# Altium footprint library Expander.PcbLib: 6 footprints
Each footprint in its own frame and in the unit in brackets; x right, y up, seen from the top. Pads: shape width x height; smd on the part's side, far side on the other; paste and mask are expansions set on the pad; w line width, h text height; cw(c..) or ccw(c..) is an arc to the next point about the centre after c.
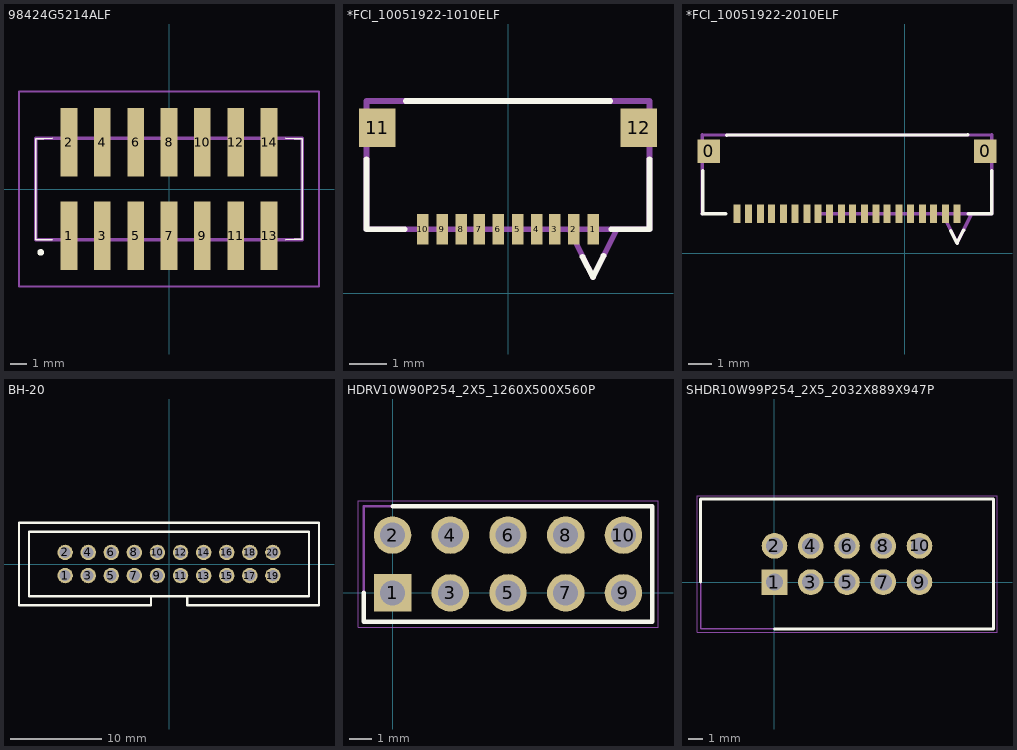
[diagram p0: the footprints below, top view; thin cyan lines are the x and y axes]

## 98424G5214ALF [mm]
pads (14):
  rect 1x4.1 smd: 1(-6,-2.8) 2(-6,2.8) 3(-4,-2.8) 4(-4,2.8) 5(-2,-2.8) 6(-2,2.8) 7(0,-2.8) 8(0,2.8) 9(2,-2.8) 10(2,2.8) 11(4,-2.8) 12(4,2.8) 13(6,-2.8) 14(6,2.8)
Top Overlay:
  lines w0.1: -7,-3.05 -8,-3.05 -8,3 -7,3.05 ; 7,-3.05 8,-3 8,3 7,3.05
  lines w0.2: -7.8,-3.8 ccw(c-7.7,-3.8) -7.6,-3.8 ccw(c-7.7,-3.8) -7.8,-3.8
Mechanical 13:
  lines w0.2: -8,-3.05 8,-3.05 8,3.05 -8,3.05 -8,-3.05
Mechanical 15:
  lines w0.1: -9,-5.85 9,-5.85 9,5.85 -9,5.85 -9,-5.85
3D body "98424-G52-14ALF.stp": height 7.1, standoff 0, extent -8,-4.75 8,4.75

## *FCI_10051922-1010ELF [mil]
pads (12):
  rect 12x32 smd: 1(89,67) 2(69,67) 3(49,67) 4(30,67) 5(10,67) 6(-10,67) 7(-30,67) 8(-49,67) 9(-69,67) 10(-89,67)
  rect 38x40 smd: 11(-137,173) 12(137,173)
Top Overlay:
  lines w6: -148,140 -148,67 -108,67 ; -107,201 107,201 ; 78,38 89,17 100,39 ; 108,67 148,67 148,140
Mechanical 4:
  lines w6: -148,67 148,67 ; -148,67 -148,201 ; -148,67 148,67 ; -148,67 -148,201 ; -148,201 148,201 ; -148,201 148,201 ; 89,17 114,67 89,17 ; 89,17 64,67 89,17 ; 148,67 148,201 ; 148,67 148,201
3D body "s10051922_1010elf.stp": height 50, standoff -1.18, extent -147.64,59.25 147.64,206.89

## *FCI_10051922-2010ELF [mil]
pads (22):
  rect 38x40 smd: 0(-333.85,173) 0(137,173)
  rect 12x32 smd: 1(89,67) 2(69,67) 3(49,67) 4(30,67) 5(10,67) 6(-10,67) 7(-30,67) 8(-49,67) 9(-69,67) 10(-89,67) 11(-107.85,67) 12(-127.85,67) 13(-147.85,67) 14(-166.85,67) 15(-186.85,67) 16(-206.85,67) 17(-226.85,67) 18(-245.85,67) 19(-265.85,67) 20(-285.85,67)
Top Overlay:
  lines w6: -344.49,66.93 -304.85,67 ; -344.13,67 -344.13,140 ; -303.15,200.79 107,201 ; 78,38 89,17 100,39 ; 108,67 148,67 148,140
Mechanical 4:
  lines w6: -344.85,67 -344.85,201 ; 89,17 114,67 89,17 ; 89,17 64,67 89,17 ; 148,67 -148,67 148,67 ; 148,67 148,201 ; 148,67 148,201 ; 148,201 -344.49,200.79 148,201
3D body "s10051922_2010elf.stp": height 50, standoff -1.18, extent -344.48,57.09 147.65,204.73

## BH-20 [mm]
pads (20):
  round 1.7 hole 1.2: 1(-11.43,-1.27) 2(-11.43,1.27) 3(-8.89,-1.27) 4(-8.89,1.27) 5(-6.35,-1.27) 6(-6.35,1.27) 7(-3.81,-1.27) 8(-3.81,1.27) 9(-1.27,-1.27) 10(-1.27,1.27) 11(1.27,-1.27) 12(1.27,1.27) 13(3.81,-1.27) 14(3.81,1.27) 15(6.35,-1.27) 16(6.35,1.27) 17(8.89,-1.27) 18(8.89,1.27) 19(11.43,-1.27) 20(11.43,1.27)
Top Overlay:
  lines w0.254: -1.975,-3.55 -15.4,-3.55 -15.4,3.55 15.4,3.55 15.4,-3.55 2,-3.55 ; -1.975,-3.55 -1.975,-4.55 -16.5,-4.55 -16.5,4.55 16.5,4.55 16.5,-4.55 2,-4.55 2,-3.55 ; -1.975,-3.55 2,-3.55
3D body "BH-20.STEP": height 9, standoff -2, extent -16.525,-4.55 16.525,4.55

## HDRV10W90P254_2X5_1260X500X560P [mm]
pads (10):
  rect 1.65x1.65 hole 1.1: 1(0,0)
  round 1.65 hole 1.1: 2(0,2.54) 3(2.54,0) 4(2.54,2.54) 5(5.08,0) 6(5.08,2.54) 7(7.62,0) 8(7.62,2.54) 9(10.16,0) 10(10.16,2.54)
Top Overlay:
  lines w0.2: -1.27,0 -1.27,-1.27 11.43,-1.27 11.43,3.81 0,3.81
Mechanical 13:
  lines w0.1: -1.27,-1.27 11.43,-1.27 11.43,3.81 -1.27,3.81 -1.27,-1.27
Mechanical 15:
  lines w0.05: -1.52,-1.52 11.68,-1.52 11.68,4.06 -1.52,4.06 -1.52,-1.52
3D body "90131-0765.stp": height 9.49, standoff -3.06, extent -1.22,-1.27 11.38,3.735

## SHDR10W99P254_2X5_2032X889X947P [mm]
pads (10):
  rect 1.8x1.8 hole 1.2: 1(0,0)
  round 1.8 hole 1.2: 2(0,2.54) 3(2.54,0) 4(2.54,2.54) 5(5.08,0) 6(5.08,2.54) 7(7.62,0) 8(7.62,2.54) 9(10.16,0) 10(10.16,2.54)
Top Overlay:
  lines w0.2: -5.18,0 -5.18,5.815 15.34,5.815 15.34,-3.275 0,-3.275
Mechanical 13:
  lines w0.1: -5.18,-3.275 -5.18,5.815 15.34,5.815 15.34,-3.275 -5.18,-3.275
Mechanical 15:
  lines w0.05: -5.43,-3.525 -5.43,6.065 15.59,6.065 15.59,-3.525 -5.43,-3.525